# Altium footprint library RSM850.PcbLib: 1 footprints
Each footprint in its own frame and in the unit in brackets; x right, y up, seen from the top. Pads: shape width x height; smd on the part's side, far side on the other; paste and mask are expansions set on the pad; w line width, h text height; cw(c..) or ccw(c..) is an arc to the next point about the centre after c.
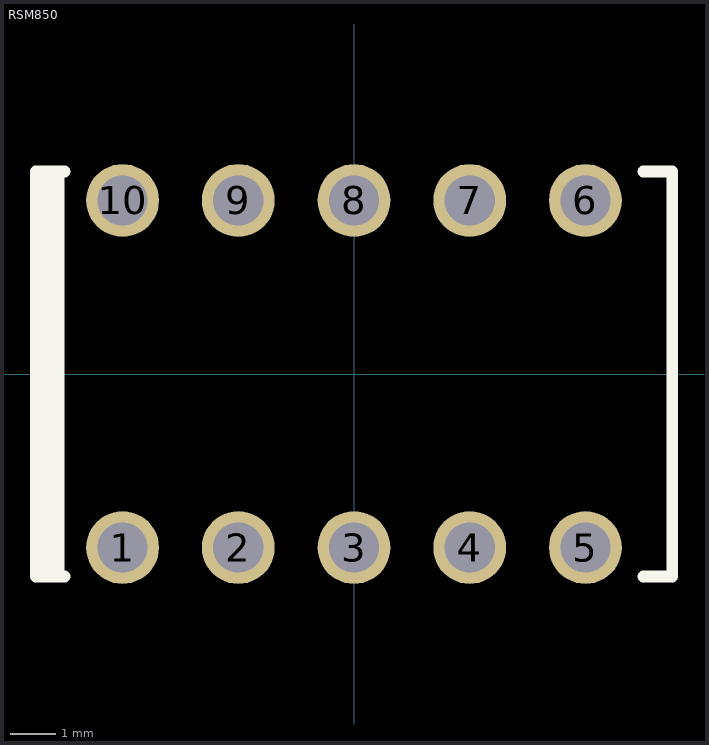
[diagram p0: the footprint, top view; thin cyan lines are the x and y axes]

## RSM850 [mm]
pads (10):
  round 1.6 hole 1.1: 1(-5.08,-3.81) 2(-2.54,-3.81) 3(0,-3.81) 4(2.54,-3.81) 5(5.08,-3.81) 6(5.08,3.81) 7(2.54,3.81) 8(0,3.81) 9(-2.54,3.81) 10(-5.08,3.81)
Top Overlay:
  rectangle: -6.985,-4.445 -6.35,4.445
  lines w0.254: -6.35,-4.445 -6.985,-4.445 -6.985,4.445 -6.35,4.445 ; 6.35,-4.445 6.985,-4.445 6.985,4.445 6.35,4.445
3D body: height 5.05, standoff -4.45, extent -7.05,-4.55 7.05,4.55